# Altium footprint library PTS815SJM250SMTRLFS.PcbLib: 2 footprints
Each footprint in its own frame and in the unit in brackets; x right, y up, seen from the top. Pads: shape width x height; smd on the part's side, far side on the other; paste and mask are expansions set on the pad; w line width, h text height; cw(c..) or ccw(c..) is an arc to the next point about the centre after c.
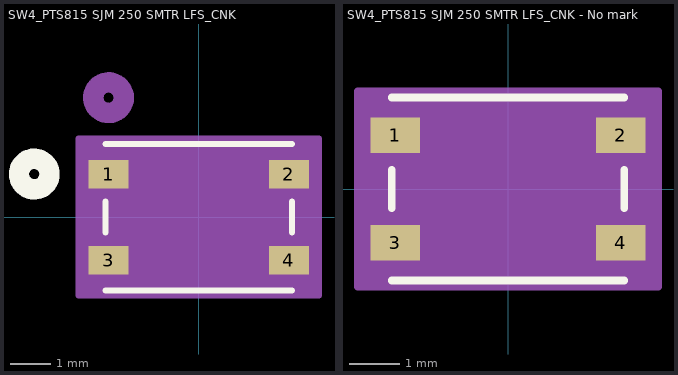
[diagram p0: the footprints below, top view; thin cyan lines are the x and y axes]

## SW4_PTS815 SJM 250 SMTR LFS_CNK [mm]
pads (4):
  rect 0.991x0.711 smd paste+0 mask+0: 1(-2.25,1.075) 2(2.25,1.075) 3(-2.25,-1.075) 4(2.25,-1.075)
Top Overlay:
  circle w0.508: c-4.102,1.075 r0.381
  lines w0.152: -2.324,-1.829 2.324,-1.829 ; -2.324,-0.387 -2.324,0.387 ; -2.324,1.829 2.324,1.829 ; 2.324,-0.387 2.324,0.387
Bottom Overlay:
  circle w0.508: c-4.102,1.075 r0.381
Mechanical 13:
  circle w0.508: c-2.25,2.98 r0.381
  lines w0.025: -2.197,-1.702 -2.197,1.702 2.197,1.702 2.197,-1.702 -2.197,-1.702
Mechanical 15:
  region: 2.999,1.956 -2.999,1.956 -2.999,-1.956 2.999,-1.956
  lines w0.152: -2.999,-1.956 2.999,-1.956 2.999,1.956 -2.999,1.956 -2.999,-1.956

## SW4_PTS815 SJM 250 SMTR LFS_CNK - No mark [mm]
pads (4):
  rect 0.991x0.711 smd paste+0 mask+0: 1(-2.25,1.075) 2(2.25,1.075) 3(-2.25,-1.075) 4(2.25,-1.075)
Top Overlay:
  lines w0.152: -2.324,-1.829 2.324,-1.829 ; -2.324,-0.387 -2.324,0.387 ; -2.324,1.829 2.324,1.829 ; 2.324,-0.387 2.324,0.387
Mechanical 13:
  lines w0.025: -2.197,-1.702 -2.197,1.702 2.197,1.702 2.197,-1.702 -2.197,-1.702
Mechanical 15:
  region: 2.999,1.956 -2.999,1.956 -2.999,-1.956 2.999,-1.956
  lines w0.152: -2.999,-1.956 2.999,-1.956 2.999,1.956 -2.999,1.956 -2.999,-1.956